# EAGLE library part ZXTC2063E6 (library borkedlabs-transistors)
NPN + PNP
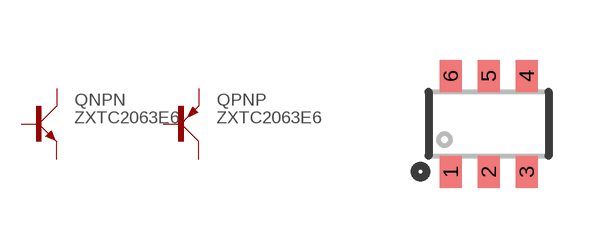
[diagram p0: symbol with the pads of SOT26; footprint SOT26]

Designator prefix Q; gates NPN=NPN PNP=PNP

## ZXTC2063E6 (PACKAGE: SOT23-6)  [SOT26]
1  NPN:C  pas
2  NPN:B  pas
3  NPN:E  pas
4  PNP:C  pas
5  PNP:B  pas
6  PNP:E  pas

## Footprint SOT26 (pad centres in mm)
Footprint for SOT-26 part DMP2240UDM
smd 0.55 x 0.8: 1 -0.95,-1.2; 2 0,-1.2; 3 0.95,-1.2; 4 0.95,1.2; 5 0,1.2; 6 -0.95,1.2